# Altium schematic symbol library 2.4GHz_On_Board_Antenna.SchLib: 1 symbol
Pins are listed as number, name and electrical type; pins without a type are passive.

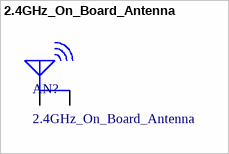
[diagram p0: symbol 2.4GHz_On_Board_Antenna]

## 2.4GHz_On_Board_Antenna
designator AN?
2.4GHz On Board Antenna for WIFI; LCSC: *
footprint 2.4GHz_On_Board_Antenna
pins: 1 +, 2 -